# Altium schematic symbol library CameraBoard.SCHLIB: 74 symbols
Pins are listed as number, name and electrical type; pins without a type are passive.

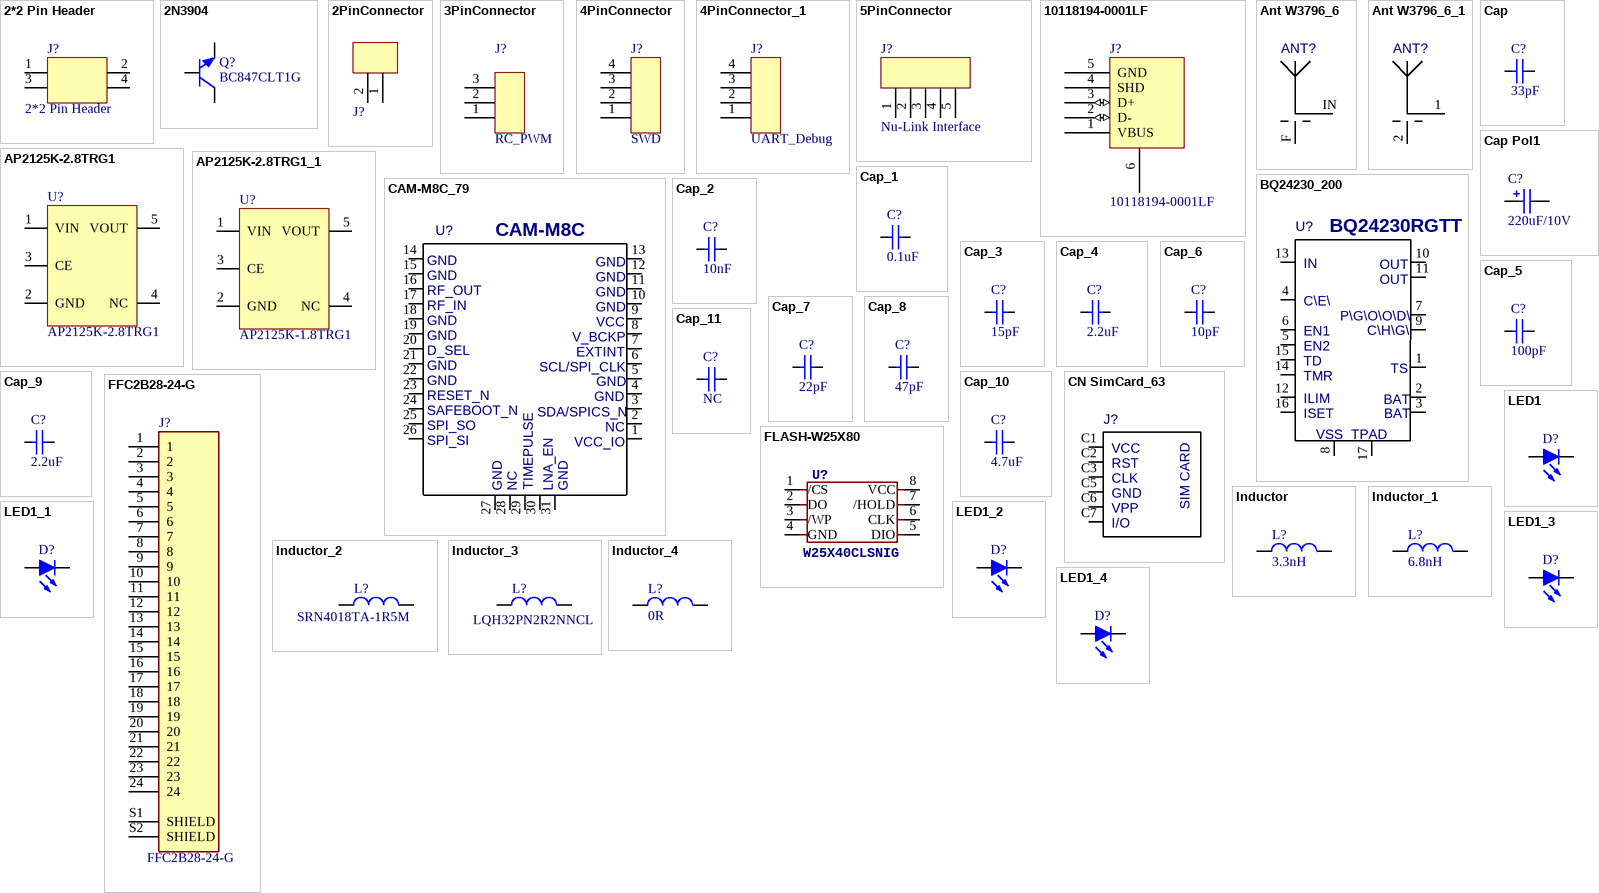
[diagram p0: symbols 2*2 Pin Header to LED1_4]

## 2*2 Pin Header
designator J?
footprint Header-2.54m-2*2pin
pins: 1, 2, 3, 4

## 2N3904
designator Q?, comment BC847CLT1G
NPN General Purpose Amplifier; Published: 8-Jun-2000; LatestRevisionDate: 15-Jan-2003; LatestRevisionNote: PCB Footprint 'BCY-W3/D4.7' replaced; DatasheetVersion: 1997; PackageVersion: Sep-1998; PackageReference: TO-92A; Publisher: Altium Limited; PackageDescription: TO, Flat Index; 3 In-Line, Axial Leads; Body Dia. 4.5mm; Leads 0.51 x 0.48 mm (max); ComponentLink1Description: Manufacturer Link; ComponentLink1URL: http://www.fairchildsemi.com/; ComponentLink2Description: Datasheet; ComponentLink2URL: http://www.fairchildsemi.com/ds/2N%2F2N3904.pdf
footprint SOT23-3
simulation model 2N3904 (NPN)
signal-integrity model 2N3904
pins: 1 B, 2 E, 3 C

## 2PinConnector
designator J?, comment 2 Pin Connector  (value not drawn)
JST_S2B-PH-SM4-TB(LF)(SN)
footprint JST_S2B-PH-SM4-TB(LF)(SN)
pins: 1, 2

## 3PinConnector
designator J?, comment RC_PWM
4PinConnector
footprint Header-2.54m-3pin
pins: 1, 2, 3

## 4PinConnector
designator J?, comment SWD
4PinConnector
footprint Header-2.54m-4pin
pins: 1, 2, 3, 4

## 4PinConnector_1
designator J?, comment UART_Debug
4PinConnector
footprint Header-2.54m-4pin
pins: 1, 2, 3, 4

## 5PinConnector
designator J?, comment Nu-Link Interface
5PinConnector
footprint Header-2.54m-5pin
pins: 1, 2, 3, 4, 5

## 10118194-0001LF
designator J?
CONN RCPT USB2.0 MICRO B SMD R/A; Manufacturer: Amphenol FCI; Gender: Receptacle; Current Rating: 1.8A; Connector Type: USB,Receptacle; Number of Contacts: 5; Insulation Resistance: 1GR; Number of Ports: 1; Max Voltage Rating (AC): 100V; Pitch: 0.65mm; Supplier 1: Digi-Key; Supplier Part Number 1: 609-4618-1-ND; Manufacturer Part Number: 10118194-0001LF; Stock 1: 145984; Pricing 1: 1=0.42, 10=0.393, 25=0.3536, 50=0.3144, 100=0.3013, 250=0.27512, 500=0.26202 (USD); Mount: Surface Mount,Horizontal; Contact Material: Copper Alloy; Contact Plating: Gold; Number of Terminals: 5; Housing Material: Polymer; Color: Black; Min Operating Temperature: -55°C; Max Operating Temperature: 85°C; Package Quantity: 9600; Packaging: Tape and Reel; Termination: Solder; Orientation: Right Angle; Features: Shielded; Length: 8.05mm; Depth: 5mm; Radiation Hardening: No; Lead Free: Lead Free; Flammability Rating: UL94 V-0; ComponentLink1URL: http://www.amphenol-icc.com/media/wysiwyg/files/drawing/10118194.pdf?src-supplier=Digi-Key; ComponentLink1Description: http://www.amphenol-icc.com/media/wysiwyg/files/drawing/10118194.pdf?src-supplier=Digi-Key; ComponentLink2URL: https://cdn.amphenol-icc.com/media/wysiwyg/files/drawing/10118194.pdf?src-supplier=Mouser; ComponentLink2Description: https://cdn.amphenol-icc.com/media/wysiwyg/files/drawing/10118194.pdf?src-supplier=Mouser; ComponentLink3URL: https://cdn.amphenol-icc.com/media/wysiwyg/files/drawing/10118194.pdf?src-supplier=Avnet; ComponentLink3Description: https://cdn.amphenol-icc.com/media/wysiwyg/files/drawing/10118194.pdf?src-supplier=Avnet; ComponentLink4URL: https://cdn.amphenol-icc.com/media/wysiwyg/files/drawing/10118194.pdf?src-supplier=Verical; ComponentLink4Description: https://cdn.amphenol-icc.com/media/wysiwyg/files/drawing/10118194.pdf?src-supplier=Verical
footprint 10118194-0001LF (CONN USB MICRO B RECPT SMT R/A)
pins: 1 VBUS (power), 2 D- (io), 3 D+ (io), 4 SHD, 5 GND (power), 6

## Ant W3796_6
designator ANT?  (value not drawn)
Value: *
footprint Ant W3796_Ant W3796(Primary)
pins: F, IN

## Ant W3796_6_1
designator ANT?, comment ACAG1204-868-T  (value not drawn)
RF ANT 868MHZ CHIP SOLDER SMD; Value: *
footprint Antenna_SMD_ANT1204F002R0433A
pins: 1 IN, 2 F

## AP2125K-2.8TRG1
designator U?
IC REG LINEAR 2.8V 300MA SOT23-5
footprint SOT23-5
pins: 1 VIN, 2 GND, 3 CE, 4 NC, 5 VOUT

## AP2125K-2.8TRG1_1
designator U?, comment AP2125K-1.8TRG1
IC REG LINEAR 2.8V 300MA SOT23-5
footprint SOT23-5
pins: 1 VIN, 2 GND, 3 CE, 4 NC, 5 VOUT

## BQ24230_200
designator U?, comment BQ24230RGTT
BQ24230_200; Value: *
footprint VQFN-17N
pins: 1, 2, 3, 4, 5, 6, 7, 8, 9, 10, 11, 12, 13, 14, 15, 16, 17
text: IN; OUT; C\E\; P\G\O\O\D\; EN1; C\H\G\; EN2; TD; TS; TMR; ILIM; BAT; ISET; VSS; TPAD

## CAM-M8C_79
designator U?, comment CAM-M8C
CAM-M8C_79; Value: *
footprint CAM-M8C_LCC-31N
pins: 1, 2, 3, 4, 5, 6, 7, 8, 9, 10, 11, 12, 13, 14, 15, 16, 17, 18, 19, 20, 21, 22, 23, 24, 25, 26, 27, 28, 29, 30, 31
text: GND; RF_OUT; RF_IN; VCC; V_BCKP; D_SEL; EXTINT; SCL/SPI_CLK; RESET_N; SAFEBOOT_N; SDA/SPICS_N; SPI_SO; NC; SPI_SI; VCC_IO; TIMEPULSE; LNA_EN

## Cap
designator C?, comment 33pF
PHE840MA6100MA04R17; Manufacturer: Yageo; Manufacturer Part Number: CC0603KPX7R9BB104; Supplier 1: Digi-Key; Supplier Part Number 1: 311-3567-1-ND
footprint SMD_C(0402)
simulation model CAP (Capacitor)
signal-integrity model Cap
pins: 1, 2

## Cap Pol1
designator C?, comment 220uF/10V
TPSE227K010T0100V; Published: 8-Jun-2000; LatestRevisionDate: 17-Jul-2002; LatestRevisionNote: Re-released for DXP Platform.; PackageReference: RB7.6-15; Publisher: Altium Limited; PackageDescription: Polarized Capacitor (Radial); 2 Leads
footprint Tantalum C(E)
simulation model CAP (Capacitor)
signal-integrity model Cap Pol
pins: 1, 2
1 alternate drawing of the same symbol

## Cap_1
designator C?, comment 0.1uF
Multilayer Ceramic Capacitors MLCC - SMD/SMT 50 V 0.1uF X7R 0603 10%; Manufacturer: Yageo; Manufacturer Part Number: CC0603KPX7R9BB104; Supplier 1: Digi-Key; Supplier Part Number 1: 311-3567-1-ND
footprint SMD_C(0402)
simulation model CAP (Capacitor)
signal-integrity model Cap
pins: 1, 2

## Cap_2
designator C?, comment 10nF
Multilayer Ceramic Capacitors MLCC - SMD/SMT 50 V 10nF X7R 0603 10%; Manufacturer: Yageo; Manufacturer Part Number: CC0603KPX7R9BB103; Supplier 1: Digi-Key; Supplier Part Number 1: 311-3567-1-ND
footprint SMD_C(0402)
simulation model CAP (Capacitor)
signal-integrity model Cap
pins: 1, 2

## Cap_3
designator C?, comment 15pF
Multilayer Ceramic Capacitors MLCC - SMD/SMT 50 V 15pF X7R 0603 10%; Manufacturer: Yageo; Manufacturer Part Number: CC0603KPX7R9BB150; Supplier 1: Digi-Key; Supplier Part Number 1: 311-3567-1-ND
simulation model CAP (Capacitor)
signal-integrity model Cap
footprint SMD_C(0402)
pins: 1, 2

## Cap_4
designator C?, comment 2.2uF
Multilayer Ceramic Capacitors MLCC - SMD/SMT 2.2 uF 50 VDC 10% 1206 X7R AEC-Q200; Manufacturer: Yageo; Manufacturer Part Number: GCM31CR71H225KA55K; Supplier 1: Digi-Key; Supplier Part Number 1: 311-3567-1-ND
footprint SMD_C(0603)
simulation model CAP (Capacitor)
signal-integrity model Cap
pins: 1, 2

## Cap_5
designator C?, comment 100pF
PHE840MA6100MA04R17; Manufacturer: Yageo; Manufacturer Part Number: CC0603KPX7R9BB104; Supplier 1: Digi-Key; Supplier Part Number 1: 311-3567-1-ND
footprint SMD_C(0402)
simulation model CAP (Capacitor)
signal-integrity model Cap
pins: 1, 2

## Cap_6
designator C?, comment 10pF
PHE840MA6100MA04R17; Manufacturer: Yageo; Manufacturer Part Number: CC0603KPX7R9BB104; Supplier 1: Digi-Key; Supplier Part Number 1: 311-3567-1-ND
footprint SMD_C(0402)
simulation model CAP (Capacitor)
signal-integrity model Cap
pins: 1, 2

## Cap_7
designator C?, comment 22pF
PHE840MA6100MA04R17; Manufacturer: Yageo; Manufacturer Part Number: CC0603KPX7R9BB104; Supplier 1: Digi-Key; Supplier Part Number 1: 311-3567-1-ND
footprint SMD_C(0402)
simulation model CAP (Capacitor)
signal-integrity model Cap
pins: 1, 2

## Cap_8
designator C?, comment 47pF
PHE840MA6100MA04R17; Manufacturer: Yageo; Manufacturer Part Number: CC0603KPX7R9BB104; Supplier 1: Digi-Key; Supplier Part Number 1: 311-3567-1-ND
footprint SMD_C(0402)
simulation model CAP (Capacitor)
signal-integrity model Cap
pins: 1, 2

## Cap_9
designator C?, comment 2.2uF
PHE840MA6100MA04R17; Manufacturer: Yageo; Manufacturer Part Number: CC0603KPX7R9BB104; Supplier 1: Digi-Key; Supplier Part Number 1: 311-3567-1-ND
footprint SMD_C(0603)
simulation model CAP (Capacitor)
signal-integrity model Cap
pins: 1, 2

## Cap_10
designator C?, comment 4.7uF
PHE840MA6100MA04R17; Manufacturer: Yageo; Manufacturer Part Number: CC0603KPX7R9BB104; Supplier 1: Digi-Key; Supplier Part Number 1: 311-3567-1-ND
footprint SMD_C(0603)
simulation model CAP (Capacitor)
signal-integrity model Cap
pins: 1, 2

## Cap_11
designator C?, comment NC
PHE840MA6100MA04R17; Manufacturer: Yageo; Manufacturer Part Number: CC0603KPX7R9BB104; Supplier 1: Digi-Key; Supplier Part Number 1: 311-3567-1-ND
footprint SMD_C(0402)
simulation model CAP (Capacitor)
signal-integrity model Cap
pins: 1, 2

## CN SimCard_63
designator J?, comment 78646-3001  (value not drawn)
CN SimCard_63; Value: *
footprint 78646-3001
pins: C1, C2, C3, C5, C6, C7
text: VCC; RST; CLK; GND; VPP; SIM CARD; I/O

## FFC2B28-24-G
designator J?
UC7675-A66 connector; MF: Global Connector Technology; SnapEDA_Link: https://www.snapeda.com/parts/FFC2B28-24-G/Global%20Connector%20Technology/view-part/4223067/?ref=snap; MP: FFC2B28-24-G; Price: None; Value: *; Availability: Unavailable; Package: Package Analog Devices
footprint FCI_10051922-3010ELF
pins: 1, 2, 3, 4, 5, 6, 7, 8, 9, 10, 11, 12, 13, 14, 15, 16, 17, 18, 19, 20, 21, 22, 23, 24, S1 SHIELD, S2 SHIELD

## FLASH-W25X80
designator U?, comment W25X40CLSNIG
1M-BIT,2M-BIT,4M-BIT AND 8M-BIT SERIAL FLASH MEMORY WITH 4KB SECTORS AND DUAL OUTPUT SPI
footprint SOIC-8N
pins: 1 /CS, 2 DO, 3 /WP, 4 GND, 5 DIO, 6 CLK, 7 /HOLD, 8 VCC

## Inductor
designator L?, comment 3.3nH
744771004; Code_IEC: 1005; Published: 8-Jun-2000; LatestRevisionDate: 29-May-2009; LatestRevisionNote: IPC-7351 Footprint Added.; PackageReference: 0402-A; Publisher: Altium Limited; PackageDescription: Chip Inductor; Code_JEITA: 0402
footprint SMD_R(0603)
footprint INDC1608L (Chip Inductor, Body 1.6x0.8mm, IPC High Density)
footprint 2029 (Chip Inductor, Body 2.0x1.2mm, IPC High Density)
footprint 0603 (Chip Inductor, Body 0.6x0.3mm, IPC High Density)
footprint INDC3216 (Chip Inductor, Body 3.2x1.6mm, IPC High Density)
footprint INDC4532 (Chip Inductor, Body 4.5x3.2mm, IPC High Density)
simulation model INDUCTOR (Inductor)
signal-integrity model Inductor
pins: 1, 2

## Inductor_1
designator L?, comment 6.8nH
744771004; Code_IEC: 1005; Published: 8-Jun-2000; LatestRevisionDate: 29-May-2009; LatestRevisionNote: IPC-7351 Footprint Added.; PackageReference: 0402-A; Publisher: Altium Limited; PackageDescription: Chip Inductor; Code_JEITA: 0402
footprint SMD_R(0603)
footprint INDC1608L (Chip Inductor, Body 1.6x0.8mm, IPC High Density)
footprint 2029 (Chip Inductor, Body 2.0x1.2mm, IPC High Density)
footprint 0603 (Chip Inductor, Body 0.6x0.3mm, IPC High Density)
footprint INDC3216 (Chip Inductor, Body 3.2x1.6mm, IPC High Density)
footprint INDC4532 (Chip Inductor, Body 4.5x3.2mm, IPC High Density)
simulation model INDUCTOR (Inductor)
signal-integrity model Inductor
pins: 1, 2

## Inductor_2
designator L?, comment SRN4018TA-1R5M
Code_IEC: 1005; Published: 8-Jun-2000; LatestRevisionDate: 29-May-2009; LatestRevisionNote: IPC-7351 Footprint Added.; PackageReference: 0402-A; Publisher: Altium Limited; PackageDescription: Chip Inductor; Code_JEITA: 0402
footprint IND_SRN4018TA-1R5M
footprint INDC1608L (Chip Inductor, Body 1.6x0.8mm, IPC High Density)
footprint 2029 (Chip Inductor, Body 2.0x1.2mm, IPC High Density)
footprint 0603 (Chip Inductor, Body 0.6x0.3mm, IPC High Density)
footprint INDC3216 (Chip Inductor, Body 3.2x1.6mm, IPC High Density)
footprint INDC4532 (Chip Inductor, Body 4.5x3.2mm, IPC High Density)
simulation model INDUCTOR (Inductor)
signal-integrity model Inductor
pins: 1, 2

## Inductor_3
designator L?, comment LQH32PN2R2NNCL
744771004; Code_IEC: 1005; Published: 8-Jun-2000; LatestRevisionDate: 29-May-2009; LatestRevisionNote: IPC-7351 Footprint Added.; PackageReference: 0402-A; Publisher: Altium Limited; PackageDescription: Chip Inductor; Code_JEITA: 0402
footprint IND_LQH32PN2R2NNCL
footprint INDC1608L (Chip Inductor, Body 1.6x0.8mm, IPC High Density)
footprint 2029 (Chip Inductor, Body 2.0x1.2mm, IPC High Density)
footprint 0603 (Chip Inductor, Body 0.6x0.3mm, IPC High Density)
footprint INDC3216 (Chip Inductor, Body 3.2x1.6mm, IPC High Density)
footprint INDC4532 (Chip Inductor, Body 4.5x3.2mm, IPC High Density)
simulation model INDUCTOR (Inductor)
signal-integrity model Inductor
pins: 1, 2

## Inductor_4
designator L?, comment 0R
744771004; Code_IEC: 1005; Published: 8-Jun-2000; LatestRevisionDate: 29-May-2009; LatestRevisionNote: IPC-7351 Footprint Added.; PackageReference: 0402-A; Publisher: Altium Limited; PackageDescription: Chip Inductor; Code_JEITA: 0402
footprint SMD_R(0402)
footprint INDC1608L (Chip Inductor, Body 1.6x0.8mm, IPC High Density)
footprint 2029 (Chip Inductor, Body 2.0x1.2mm, IPC High Density)
footprint 0603 (Chip Inductor, Body 0.6x0.3mm, IPC High Density)
footprint INDC3216 (Chip Inductor, Body 3.2x1.6mm, IPC High Density)
footprint INDC4532 (Chip Inductor, Body 4.5x3.2mm, IPC High Density)
simulation model INDUCTOR (Inductor)
signal-integrity model Inductor
pins: 1, 2

## LED1
designator D?, comment Yellow  (value not drawn)
Typical RED GaAs LED; Published: Yellow; LatestRevisionDate: 08-Jul-2005; LatestRevisionNote: Mech Layer 1 removed.; PackageReference: LED-1; Publisher: Altium Limited; PackageDescription: LED; 2 Leads
footprint SMD_LED(0603)
simulation model LED1 (Diode)
footprint SMD_LED(0603)
pins: 1 A, 2 K

## LED1_1
designator D?, comment Green  (value not drawn)
Typical RED GaAs LED; Published: Yellow; LatestRevisionDate: 08-Jul-2005; LatestRevisionNote: Mech Layer 1 removed.; PackageReference: LED-1; Publisher: Altium Limited; PackageDescription: LED; 2 Leads
footprint SMD_LED(0603)
simulation model LED1 (Diode)
footprint SMD_LED(0603)
pins: 1 A, 2 K

## LED1_2
designator D?, comment SML-D12U1WT86  (value not drawn)
Typical RED GaAs LED; Published: Yellow; LatestRevisionDate: 08-Jul-2005; LatestRevisionNote: Mech Layer 1 removed.; PackageReference: LED-1; Publisher: Altium Limited; PackageDescription: LED; 2 Leads
footprint SMD_LED(0603)
simulation model LED1 (Diode)
footprint SMD_LED(0603)
pins: 1 A, 2 K

## LED1_3
designator D?, comment BLUE  (value not drawn)
Typical BLUE GaAs LED; Published: Yellow; LatestRevisionDate: 08-Jul-2005; LatestRevisionNote: Mech Layer 1 removed.; PackageReference: LED-1; Publisher: Altium Limited; PackageDescription: LED; 2 Leads
footprint SMD_LED(0603)
simulation model LED1 (Diode)
footprint SMD_LED(0603)
pins: 1 A, 2 K

## LED1_4
designator D?, comment HSDL-4220  (value not drawn)
Typical RED GaAs LED; Published: Yellow; LatestRevisionDate: 08-Jul-2005; LatestRevisionNote: Mech Layer 1 removed.; PackageReference: LED-1; Publisher: Altium Limited; PackageDescription: LED; 2 Leads
footprint LED-DIP 5mm
simulation model LED1 (Diode)
footprint LED-DIP 5mm
pins: 1 A, 2 K

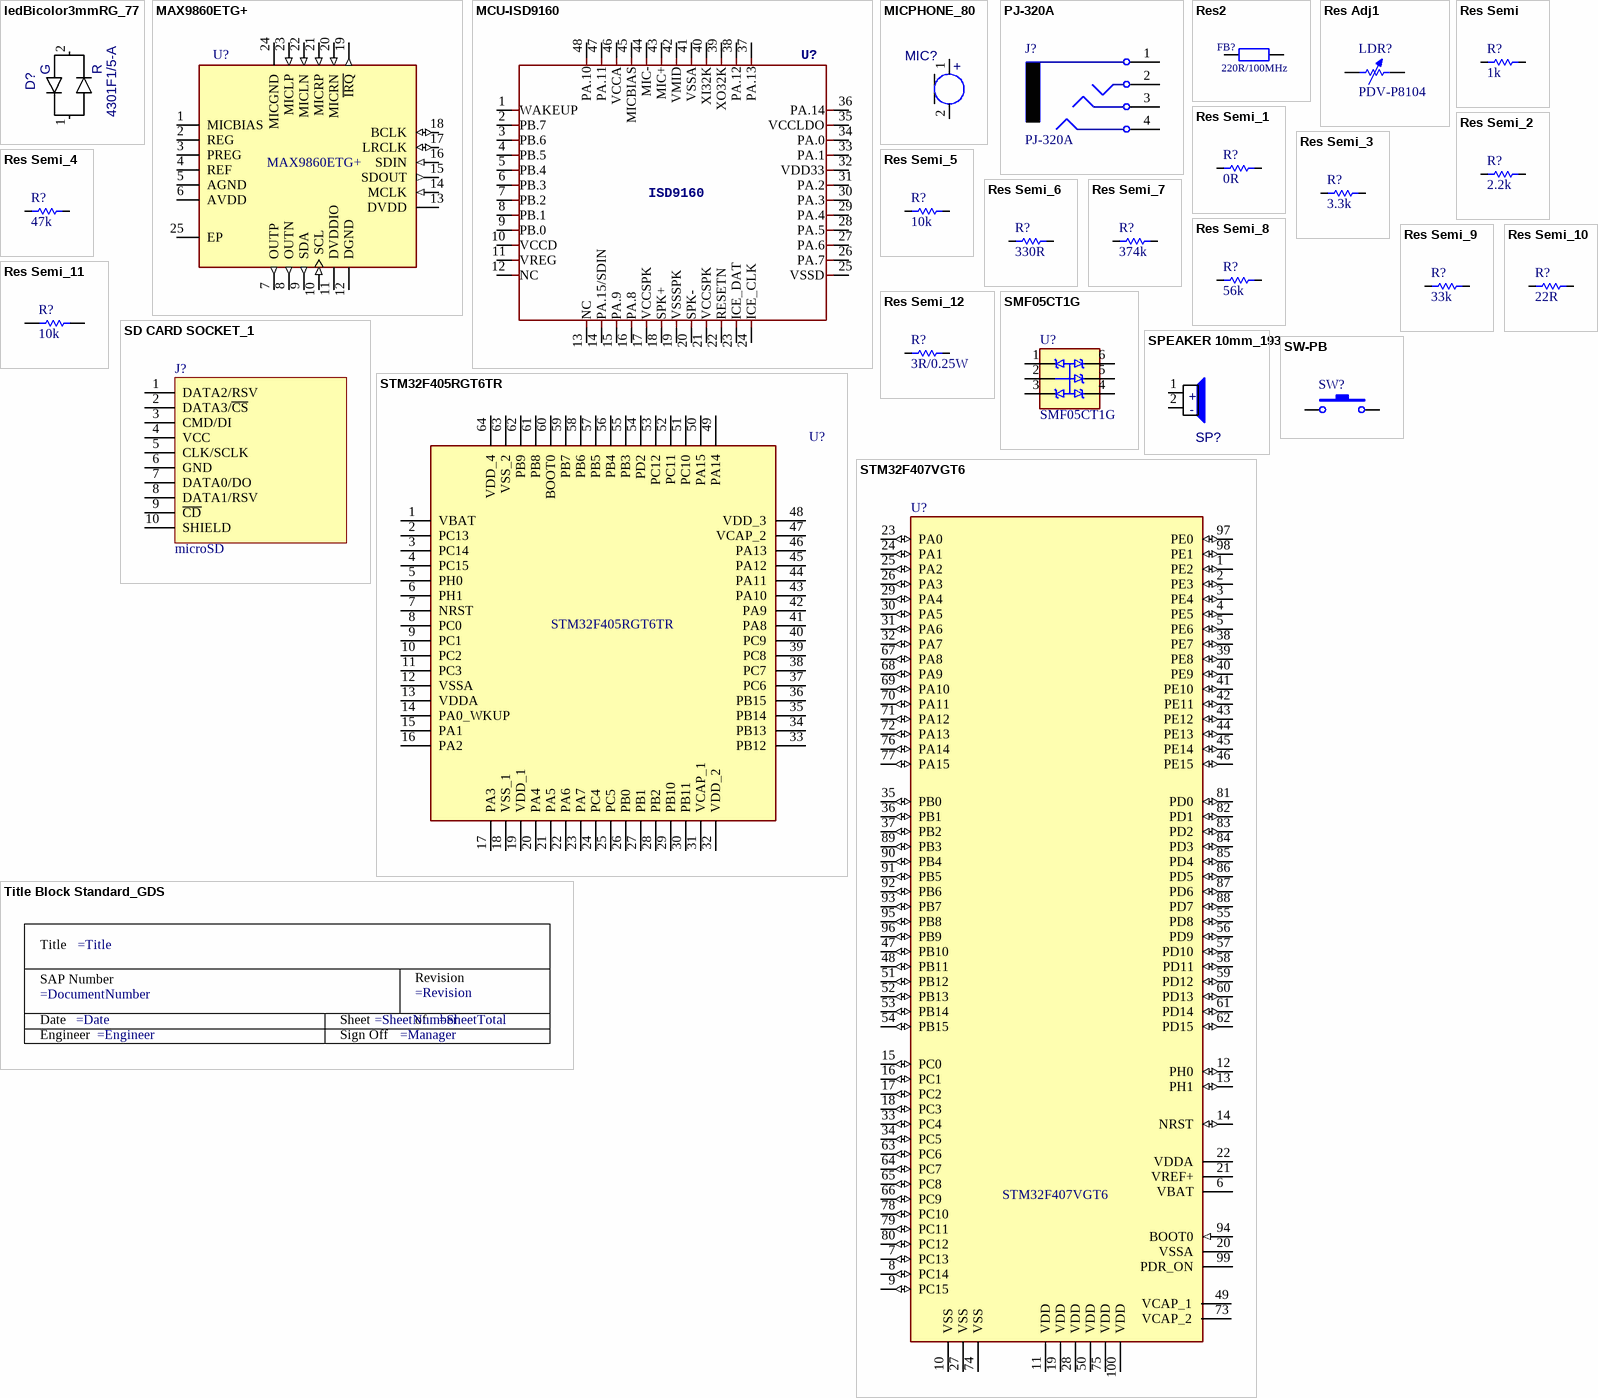
[diagram p1: symbols ledBicolor3mmRG_77 to Title Block Standard_GDS]

## ledBicolor3mmRG_77
designator D?, comment 4301F1/5-A
ledBicolor3mmRG_77; Value: *
footprint LED-DIP 3mm
pins: 1 R, 2 G

## MAX9860ETG+
designator U?
Audio Interface 16 b Serial 24-TQFN _4x4_; MF: Maxim Integrated; Digi-Key_Part_Number: MAX9860ETG+-ND; Package: TQFN-24 Maxim; SnapEDA_Link: https://www.snapeda.com/parts/MAX9860ETG%2B/Maxim%20Integrated/view-part/104791/?ref=snap; MP: MAX9860ETG+; Value: *; Digi-Key_Purchase_URL: https://www.digikey.com/product-detail/en/maxim-integrated/MAX9860ETG-/MAX9860ETG--ND/2044815?utm_source=snapeda&utm_medium=aggregator&utm_campaign=symbol
footprint QFN50P400X400X75-25N
pins: 1 MICBIAS, 2 REG, 3 PREG, 4 REF, 5 AGND (power), 6 AVDD (power), 7 OUTP (out), 8 OUTN (out), 9 SDA (out), 10 SCL (in), 11 DVDDIO (power), 12 DGND (power), 13 DVDD (power), 14 MCLK (in), 15 SDOUT (out), 16 SDIN (in), 17 LRCLK (io), 18 BCLK (io), 19 ~{IRQ} (out), 20 MICRN (in), 21 MICRP (in), 22 MICLN (in), 23 MICLP (in), 24 MICGND (power), 25 EP (power)

## MCU-ISD9160
designator U?, comment ISD9160
footprint LQFP-48N
pins: 1 WAKEUP, 2 PB.7, 3 PB.6, 4 PB.5, 5 PB.4, 6 PB.3, 7 PB.2, 8 PB.1, 9 PB.0, 10 VCCD, 11 VREG, 12 NC, 13 NC, 14 PA.15/SDIN, 15 PA.9, 16 PA.8, 17 VCCSPK, 18 SPK+, 19 VSSSPK, 20 SPK-, 21 VCCSPK, 22 RESETN, 23 ICE_DAT, 24 ICE_CLK, 25 VSSD, 26 PA.7, 27 PA.6, 28 PA.5, 29 PA.4, 30 PA.3, 31 PA.2, 32 VDD33, 33 PA.1, 34 PA.0, 35 VCCLDO, 36 PA.14, 37 PA.13, 38 PA.12, 39 XO32K, 40 XI32K, 41 VSSA, 42 VMID, 43 MIC+, 44 MIC-, 45 MICBIAS, 46 VCCA, 47 PA.11, 48 PA.10

## MICPHONE_80
designator MIC?, comment CMEJ-0627-42-P  (value not drawn)
MICPHONE_80; Value: *
footprint MIC_CMEJ-0627-42-P
pins: 1, 2
text: +

## PJ-320A
designator J?
Connector, 3.5mm Stereo Audio Socket, Black
footprint AUDIO-TH_PJ-320A
pins: 1, 2, 3, 4

## Res2
designator FB?, comment 220R/100MHz
BLM18KG221SN1D Ferrite Bead(0603); Published: 8-Jun-2000; LatestRevisionDate: 17-Jul-2002; LatestRevisionNote: Re-released for DXP Platform.; PackageReference: AXIAL-0.4; Publisher: Altium Limited; PackageDescription: Axial Device, Thru-Hole; 2 Leads; 0.4 in Pin Spacing
footprint SMD_R(0603)
simulation model RESISTOR (Resistor)
signal-integrity model Res
pins: 1, 2

## Res Adj1
designator LDR?, comment PDV-P8104
Variable Resistor; Set Position: 0.5; Published: 8-Jun-2000; LatestRevisionDate: 17-Jul-2002; LatestRevisionNote: Re-released for DXP Platform.; PackageReference: AXIAL-0.7; Publisher: Altium Limited; PackageDescription: Axial Device, Thru-Hole; 2 Leads; 0.7 in Pin Spacing
footprint PHODET_PDV-P8103
simulation model VRES (Variable Resistor)
signal-integrity model Res Adj
pins: 1, 2

## Res Semi
designator R?, comment 1k
CRCW04024R02FKED; Published: 8-Jun-2000; LatestRevisionDate: 17-Jul-2002; LatestRevisionNote: Re-released for DXP Platform.; PackageReference: AXIAL-0.5; Publisher: Altium Limited; PackageDescription: Axial Device, Thru-Hole; 2 Leads; 0.5 in Pin Spacing
footprint SMD_R(0402)
simulation model RES (Semiconductor Resistor)
signal-integrity model Res Semi
pins: 1, 2

## Res Semi_1
designator R?, comment 0R
CRCW04024R02FKED; Published: 8-Jun-2000; LatestRevisionDate: 17-Jul-2002; LatestRevisionNote: Re-released for DXP Platform.; PackageReference: AXIAL-0.5; Publisher: Altium Limited; PackageDescription: Axial Device, Thru-Hole; 2 Leads; 0.5 in Pin Spacing
footprint SMD_R(0402)
simulation model RES (Semiconductor Resistor)
signal-integrity model Res Semi
pins: 1, 2

## Res Semi_2
designator R?, comment 2.2k
CRCW04024R02FKED; Published: 8-Jun-2000; LatestRevisionDate: 17-Jul-2002; LatestRevisionNote: Re-released for DXP Platform.; PackageReference: AXIAL-0.5; Publisher: Altium Limited; PackageDescription: Axial Device, Thru-Hole; 2 Leads; 0.5 in Pin Spacing
footprint SMD_R(0402)
simulation model RES (Semiconductor Resistor)
signal-integrity model Res Semi
pins: 1, 2

## Res Semi_3
designator R?, comment 3.3k
CRCW04024R02FKED; Published: 8-Jun-2000; LatestRevisionDate: 17-Jul-2002; LatestRevisionNote: Re-released for DXP Platform.; PackageReference: AXIAL-0.5; Publisher: Altium Limited; PackageDescription: Axial Device, Thru-Hole; 2 Leads; 0.5 in Pin Spacing
footprint SMD_R(0402)
simulation model RES (Semiconductor Resistor)
signal-integrity model Res Semi
pins: 1, 2

## Res Semi_4
designator R?, comment 47k
CRCW04024R02FKED; Published: 8-Jun-2000; LatestRevisionDate: 17-Jul-2002; LatestRevisionNote: Re-released for DXP Platform.; PackageReference: AXIAL-0.5; Publisher: Altium Limited; PackageDescription: Axial Device, Thru-Hole; 2 Leads; 0.5 in Pin Spacing
footprint SMD_R(0402)
simulation model RES (Semiconductor Resistor)
signal-integrity model Res Semi
pins: 1, 2

## Res Semi_5
designator R?, comment 10k
CRCW04024R02FKED; Published: 8-Jun-2000; LatestRevisionDate: 17-Jul-2002; LatestRevisionNote: Re-released for DXP Platform.; PackageReference: AXIAL-0.5; Publisher: Altium Limited; PackageDescription: Axial Device, Thru-Hole; 2 Leads; 0.5 in Pin Spacing
footprint SMD_R(0402)
simulation model RES (Semiconductor Resistor)
signal-integrity model Res Semi
pins: 1, 2

## Res Semi_6
designator R?, comment 330R
CRCW04024R02FKED; Published: 8-Jun-2000; LatestRevisionDate: 17-Jul-2002; LatestRevisionNote: Re-released for DXP Platform.; PackageReference: AXIAL-0.5; Publisher: Altium Limited; PackageDescription: Axial Device, Thru-Hole; 2 Leads; 0.5 in Pin Spacing
footprint SMD_R(0402)
simulation model RES (Semiconductor Resistor)
signal-integrity model Res Semi
pins: 1, 2

## Res Semi_7
designator R?, comment 374k
CRCW04024R02FKED; Published: 8-Jun-2000; LatestRevisionDate: 17-Jul-2002; LatestRevisionNote: Re-released for DXP Platform.; PackageReference: AXIAL-0.5; Publisher: Altium Limited; PackageDescription: Axial Device, Thru-Hole; 2 Leads; 0.5 in Pin Spacing
footprint SMD_R(0402)
simulation model RES (Semiconductor Resistor)
signal-integrity model Res Semi
pins: 1, 2

## Res Semi_8
designator R?, comment 56k
CRCW04024R02FKED; Published: 8-Jun-2000; LatestRevisionDate: 17-Jul-2002; LatestRevisionNote: Re-released for DXP Platform.; PackageReference: AXIAL-0.5; Publisher: Altium Limited; PackageDescription: Axial Device, Thru-Hole; 2 Leads; 0.5 in Pin Spacing
footprint SMD_R(0402)
simulation model RES (Semiconductor Resistor)
signal-integrity model Res Semi
pins: 1, 2

## Res Semi_9
designator R?, comment 33k
CRCW04024R02FKED; Published: 8-Jun-2000; LatestRevisionDate: 17-Jul-2002; LatestRevisionNote: Re-released for DXP Platform.; PackageReference: AXIAL-0.5; Publisher: Altium Limited; PackageDescription: Axial Device, Thru-Hole; 2 Leads; 0.5 in Pin Spacing
footprint SMD_R(0402)
simulation model RES (Semiconductor Resistor)
signal-integrity model Res Semi
pins: 1, 2

## Res Semi_10
designator R?, comment 22R
CRCW04024R02FKED; Published: 8-Jun-2000; LatestRevisionDate: 17-Jul-2002; LatestRevisionNote: Re-released for DXP Platform.; PackageReference: AXIAL-0.5; Publisher: Altium Limited; PackageDescription: Axial Device, Thru-Hole; 2 Leads; 0.5 in Pin Spacing
footprint SMD_R(0402)
simulation model RES (Semiconductor Resistor)
signal-integrity model Res Semi
pins: 1, 2

## Res Semi_11
designator R?, comment 10k
AC0402FR-0710KL; Published: 8-Jun-2000; LatestRevisionDate: 17-Jul-2002; LatestRevisionNote: Re-released for DXP Platform.; PackageReference: AXIAL-0.5; Publisher: Altium Limited; PackageDescription: Axial Device, Thru-Hole; 2 Leads; 0.5 in Pin Spacing
footprint SMD_R(0402)
simulation model RES (Semiconductor Resistor)
signal-integrity model Res Semi
pins: 1, 2

## Res Semi_12
designator R?, comment 3R/0.25W
CRCW04024R02FKED; Published: 8-Jun-2000; LatestRevisionDate: 17-Jul-2002; LatestRevisionNote: Re-released for DXP Platform.; PackageReference: AXIAL-0.5; Publisher: Altium Limited; PackageDescription: Axial Device, Thru-Hole; 2 Leads; 0.5 in Pin Spacing
footprint SMD_R(0603)
simulation model RES (Semiconductor Resistor)
signal-integrity model Res Semi
pins: 1, 2

## SD CARD SOCKET_1
designator J?, comment microSD
SD CARD SOCKET; Published: 8-Jun-2000; LatestRevisionDate: 17-Jul-2002; LatestRevisionNote: Re-released for DXP Platform.; DatasheetVersion: REV. B; PackageVersion: 1990; PackageReference: H-08A; Publisher: Altium Limited; PackageDescription: Can; 8 Leads; Pin Circle Dia. 5.08 mm; Lead Dia. 0.53 mm (max); ComponentLink1Description: Manufacturer Link; ComponentLink1URL: http://www.analog.com/
footprint *MOLEX_47352-1001_47352-1001(Primary)
simulation model AD645A (Spice Subcircuit)
pins: 1 DATA2/RSV, 2 DATA3/~{CS}, 3 CMD/DI, 4 VCC, 5 CLK/SCLK, 6 GND, 7 DATA0/DO, 8 DATA1/RSV, 9 ~{CD}, 10 SHIELD

## SMF05CT1G
designator U?
12.5V Clamp 8A _8/20Âµs_ Ipp Tvs Diode Surface Mount SC-88/SC70-6/SOT-363; MF: ON Semiconductor; Digi-Key_Part_Number: SMF05CT1GOSCT-ND; Package: SOT-363 ON Semiconductor; MP: SMF05CT1G; SnapEDA_Link: https://www.snapeda.com/parts/SMF05CT1G/ON%20Semiconductor/view-part/266365/?ref=snap; Digi-Key_Purchase_URL: https://www.digikey.com/product-detail/en/on-semiconductor/SMF05CT1G/SMF05CT1GOSCT-ND/1967287?utm_source=snapeda&utm_medium=aggregator&utm_campaign=symbol; Value: *
footprint SOT-363
pins: 1 C1, 2 A, 3 C2, 4 C3, 5 C4, 6 C5

## SPEAKER 10mm_193
designator SP?  (value not drawn)
Value: *
footprint Header-2.54m-2pin
pins: 1 SP+, 2 SP-
text: +; -

## STM32F405RGT6TR
designator U?
STM32F405RGT6TR, 32 bit ARM Cortex M4 MCU 168MHz 1024 kB Flash, 192 kB RAM, 2xUSB CAN I2C 64-Pin LQFP; Manufacturer_Name: STMicroelectronics; Geometry.Height: 1.6mm; Mouser Part Number: 511-STM32F405RGT6TR; Mouser Price/Stock: https://www.mouser.co.uk/ProductDetail/STMicroelectronics/STM32F405RGT6TR?qs=MavH1QghrkHshpR6GkvPIg%3D%3D; Manufacturer_Part_Number: STM32F405RGT6TR; Datasheet Link: http://www.st.com/web/en/resource/technical/document/datasheet/DM00037051.pdf
footprint QFP50P1200X1200X160-64N
pins: 1 VBAT, 2 PC13, 3 PC14, 4 PC15, 5 PH0, 6 PH1, 7 NRST, 8 PC0, 9 PC1, 10 PC2, 11 PC3, 12 VSSA, 13 VDDA, 14 PA0_WKUP, 15 PA1, 16 PA2, 17 PA3, 18 VSS_1, 19 VDD_1, 20 PA4, 21 PA5, 22 PA6, 23 PA7, 24 PC4, 25 PC5, 26 PB0, 27 PB1, 28 PB2, 29 PB10, 30 PB11, 31 VCAP_1, 32 VDD_2, 33 PB12, 34 PB13, 35 PB14, 36 PB15, 37 PC6, 38 PC7, 39 PC8, 40 PC9, 41 PA8, 42 PA9, 43 PA10, 44 PA11, 45 PA12, 46 PA13, 47 VCAP_2, 48 VDD_3, 49 PA14, 50 PA15, 51 PC10, 52 PC11, 53 PC12, 54 PD2, 55 PB3, 56 PB4, 57 PB5, 58 PB6, 59 PB7, 60 BOOT0, 61 PB8, 62 PB9, 63 VSS_2, 64 VDD_4

## STM32F407VGT6
designator U?
ARMÂ® CortexÂ®-M4 STM32F4 Microcontroller IC 32-Bit 168MHz 1MB _1M x 8_ FLASH 100-LQFP _14x14_; MF: STMicroelectronics; Value: *; SnapEDA_Link: https://www.snapeda.com/parts/STM32F407VGT6/STMicroelectronics/view-part/106801/?ref=snap; MP: STM32F407VGT6; Availability: Unavailable; Price: None; Package: LQFP-100 STMicroelectronics
footprint LQFP-100N
pins: 1 PE2 (io), 2 PE3 (io), 3 PE4 (io), 4 PE5 (io), 5 PE6 (io), 6 VBAT (power), 7 PC13 (io), 8 PC14 (io), 9 PC15 (io), 10 VSS (power), 11 VDD (power), 12 PH0 (io), 13 PH1 (io), 14 NRST (io), 15 PC0 (io), 16 PC1 (io), 17 PC2 (io), 18 PC3 (io), 19 VDD (power), 20 VSSA (power), 21 VREF+ (power), 22 VDDA (power), 23 PA0 (io), 24 PA1 (io), 25 PA2 (io), 26 PA3 (io), 27 VSS (power), 28 VDD (power), 29 PA4 (io), 30 PA5 (io), 31 PA6 (io), 32 PA7 (io), 33 PC4 (io), 34 PC5 (io), 35 PB0 (io), 36 PB1 (io), 37 PB2 (io), 38 PE7 (io), 39 PE8 (io), 40 PE9 (io), 41 PE10 (io), 42 PE11 (io), 43 PE12 (io), 44 PE13 (io), 45 PE14 (io), 46 PE15 (io), 47 PB10 (io), 48 PB11 (io), 49 VCAP_1, 50 VDD (power), 51 PB12 (io), 52 PB13 (io), 53 PB14 (io), 54 PB15 (io), 55 PD8 (io), 56 PD9 (io), 57 PD10 (io), 58 PD11 (io), 59 PD12 (io), 60 PD13 (io), 61 PD14 (io), 62 PD15 (io), 63 PC6 (io), 64 PC7 (io), 65 PC8 (io), 66 PC9 (io), 67 PA8 (io), 68 PA9 (io), 69 PA10 (io), 70 PA11 (io), 71 PA12 (io), 72 PA13 (io), 73 VCAP_2, 74 VSS (power), 75 VDD (power), 76 PA14 (io), 77 PA15 (io), 78 PC10 (io), 79 PC11 (io), 80 PC12 (io), 81 PD0 (io), 82 PD1 (io), 83 PD2 (io), 84 PD3 (io), 85 PD4 (io), 86 PD5 (io), 87 PD6 (io), 88 PD7 (io), 89 PB3 (io), 90 PB4 (io), 91 PB5 (io), 92 PB6 (io), 93 PB7 (io), 94 BOOT0 (in), 95 PB8 (io), 96 PB9 (io), 97 PE0 (io), 98 PE1 (io), 99 PDR_ON (power), 100 VDD (power)

## SW-PB
designator SW?, comment 1825966-1  (value not drawn)
Switch; Published: 24-Mar-1999; LatestRevisionDate: 17-Jul-2002; LatestRevisionNote: Re-released for DXP Platform.; PackageReference: SPST-2; Publisher: Altium Limited; PackageDescription: Switch; 2 Leads
footprint SW_1825966-1
pins: 1, 2

## Title Block Standard_GDS
designator ?  (value not drawn)  (graphical)
Drawn By: =Engineer; Sheet Title: =Title; Document Number: =DocumentNumber; Revision Number: =Revision; Total Sheets: =SheetTotal; Sheet Number: =SheetNumber; Manager: =Manager; Design Date: =Date
text: Title; Revision; SAP Number; Date; Sheet; of; Engineer; Sign Off

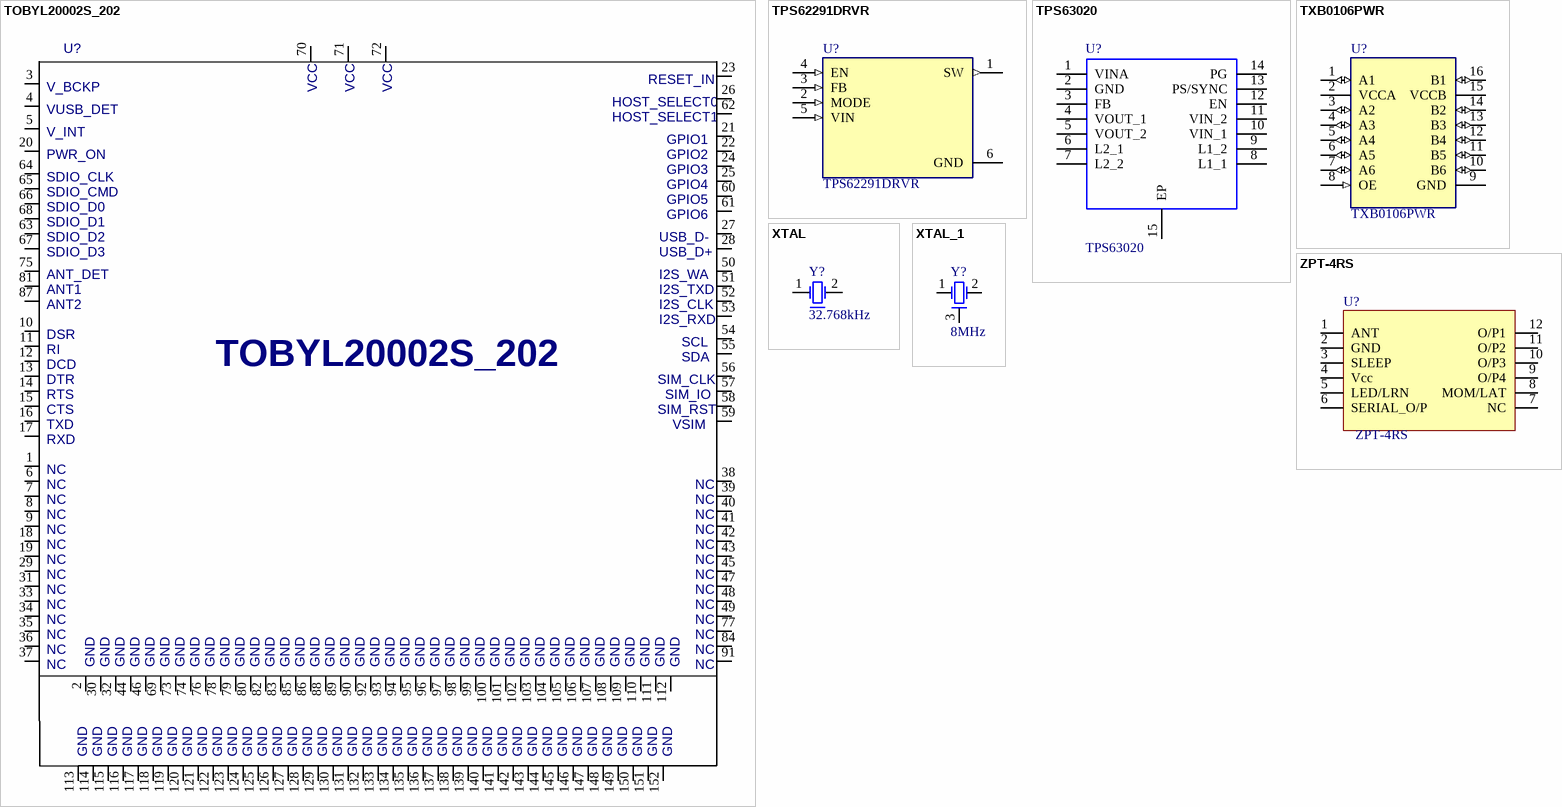
[diagram p2: symbols TOBYL20002S_202 to ZPT-4RS]

## TOBYL20002S_202
designator U?
Value: *
footprint TOBYL20002S_TOBYL20002S(Primary)
pins: 1, 2, 3, 4, 5, 6, 7, 8, 9, 10, 11, 12, 13, 14, 15, 16, 17, 18, 19, 20, 21, 22, 23, 24, 25, 26, 27, 28, 29, 30, 31, 32, 33, 34, 35, 36, 37, 38, 39, 40, 41, 42, 43, 44, 45, 46, 47, 48, 49, 50, 51, 52, 53, 54, 55, 56, 57, 58, 59, 60, 61, 62, 63, 64, 65, 66, 67, 68, 69, 70, 71, 72, 73, 74, 75, 76, 77, 78, 79, 80, 81, 82, 83, 84, 85, 86, 87, 88, 89, 90, 91, 92, 93, 94, 95, 96, 97, 98, 99, 100, 101, 102, 103, 104, 105, 106, 107, 108, 109, 110, 111, 112, 113, 114, 115, 116, 117, 118, 119, 120, 121, 122, 123, 124, 125, 126, 127, 128, 129, 130, 131, 132, 133, 134, 135, 136, 137, 138, 139, 140, 141, 142, 143, 144, 145, 146, 147, 148, 149, 150, 151, 152
text: RESET_IN; V_BCKP; VCC; HOST_SELECT0; VUSB_DET; HOST_SELECT1; V_INT; GPIO1; PWR_ON; GPIO2; GPIO3; SDIO_CLK; GPIO4; SDIO_CMD; GPIO5; SDIO_D0; GPIO6; SDIO_D1; SDIO_D2; USB_D-; SDIO_D3; USB_D+; ANT_DET; I2S_WA; ANT1; I2S_TXD; ANT2; I2S_CLK; I2S_RXD; DSR; SCL; RI; SDA; DCD; DTR; SIM_CLK; RTS; SIM_IO; CTS; SIM_RST; TXD; VSIM; RXD; NC; GND

## TPS62291DRVR
designator U?
2.25MHz 1A Step-Down Converter in 2x2mm SON Package 6-WSON -40 to 85; MF: Texas Instruments; Price: None; MP: TPS62291DRVR; Value: *; Package: WSON-6 Texas Instruments; SnapEDA_Link: https://www.snapeda.com/parts/TPS62291DRVR/Texas%20Instruments/view-part/584732/?ref=snap; Availability: Unavailable; Texas_Instruments-Purchase-URL: https://snapeda.com/shop?store=Texas+Instruments&id=584732
footprint SON65P200X200X80-7N
pins: 1 SW (out), 2 MODE (in), 3 FB (in), 4 EN (in), 5 VIN (in), 6 GND (power)

## TPS63020
designator U?
footprint TPS63020
pins: 1 VINA, 2 GND, 3 FB, 4 VOUT_1, 5 VOUT_2, 6 L2_1, 7 L2_2, 8 L1_1, 9 L1_2, 10 VIN_1, 11 VIN_2, 12 EN, 13 PS/SYNC, 14 PG, 15 EP

## TXB0106PWR
designator U?
6-Bit Bidirectional Voltage-Level Translator with Auto Direction Sensing and +/-15-kV ESD Protect 16-TSSOP -40 to 85; MF: Texas Instruments; Texas_Instruments-Purchase-URL: https://snapeda.com/shop?store=Texas+Instruments&id=134340; SnapEDA_Link: https://www.snapeda.com/parts/TXB0106PWR/Texas%20Instruments/view-part/134340/?ref=snap; Value: *; MP: TXB0106PWR; Package: TSSOP-16 Texas Instruments; DigiKey-Purchase-URL: https://snapeda.com/shop?store=DigiKey&id=134340; Availability: Warning; Price: None; Mouser-Purchase-URL: https://snapeda.com/shop?store=Mouser&id=134340
footprint TSSOP-16N
pins: 1 A1 (io), 2 VCCA (power), 3 A2 (io), 4 A3 (io), 5 A4 (io), 6 A5 (io), 7 A6 (io), 8 OE (in), 9 GND (power), 10 B6 (io), 11 B5 (io), 12 B4 (io), 13 B3 (io), 14 B2 (io), 15 VCCB (power), 16 B1 (io)

## XTAL
designator Y?, comment 32.768kHz
TFSM262P32K7680; Published: 8-Jun-2000; LatestRevisionDate: 17-Jul-2002; LatestRevisionNote: Re-released for DXP Platform.; PackageReference: R38; Publisher: Altium Limited; PackageDescription: Crystal, Thru-Hole; 2 Leads; Body 3.1 x 8.2 mm (Dia.xH)
footprint TC26H_3_REPAIR_SMD (Footprint not found)
simulation model XTAL (Spice Subcircuit)
pins: 1 OSC1, 2 OSC2

## XTAL_1
designator Y?, comment 8MHz
Crystal Oscillator; Published: 8-Jun-2000; LatestRevisionDate: 17-Jul-2002; LatestRevisionNote: Re-released for DXP Platform.; PackageReference: R38; Publisher: Altium Limited; PackageDescription: Crystal, Thru-Hole; 2 Leads; Body 3.1 x 8.2 mm (Dia.xH)
footprint Resonator_mini
simulation model XTAL (Spice Subcircuit)
pins: 1 OSC1, 2 OSC2, 3 OSC2

## ZPT-4RS
designator U?
RF RECEIVER 433MHZ MODULE
footprint ZPT-4RS
pins: 1 ANT, 2 GND, 3 SLEEP, 4 Vcc, 5 LED/LRN, 6 SERIAL_O/P, 7 NC, 8 MOM/LAT, 9 O/P4, 10 O/P3, 11 O/P2, 12 O/P1